# Altium footprint library KEY1.PcbLib: 1 footprints
Each footprint in its own frame and in the unit in brackets; x right, y up, seen from the top. Pads: shape width x height; smd on the part's side, far side on the other; paste and mask are expansions set on the pad; w line width, h text height; cw(c..) or ccw(c..) is an arc to the next point about the centre after c.
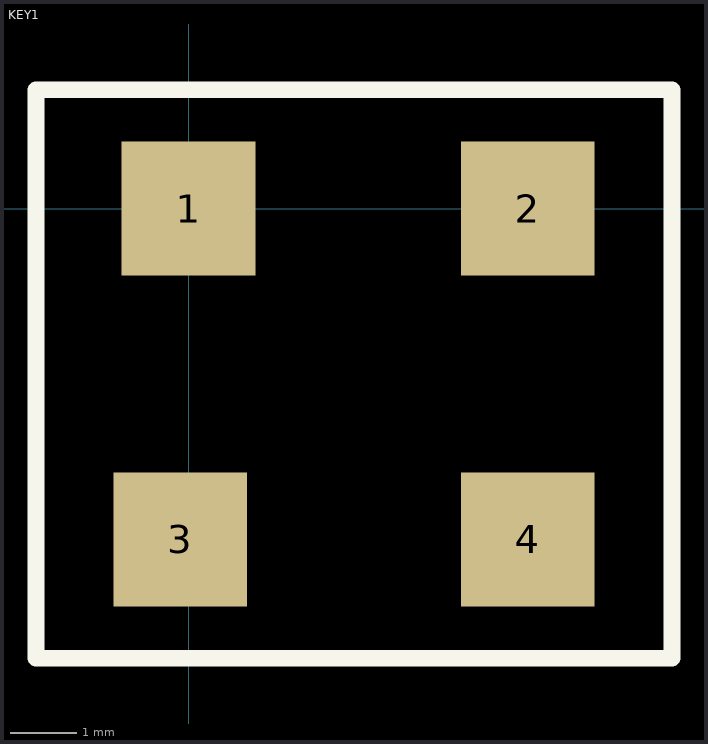
[diagram p0: the footprint, top view; thin cyan lines are the x and y axes]

## KEY1 [mm]
pads (4):
  rect 2x2 smd: 1(0,0) 2(5.08,0) 3(-0.127,-4.953) 4(5.08,-4.953)
Top Overlay:
  lines w0.254: -2.286,-6.731 7.239,-6.731 7.239,1.778 6.731,1.778 -2.286,1.778 -2.286,-6.731